# Altium footprint library buzzerGrande.PcbLib: 1 footprints
Each footprint in its own frame and in the unit in brackets; x right, y up, seen from the top. Pads: shape width x height; smd on the part's side, far side on the other; paste and mask are expansions set on the pad; w line width, h text height; cw(c..) or ccw(c..) is an arc to the next point about the centre after c.
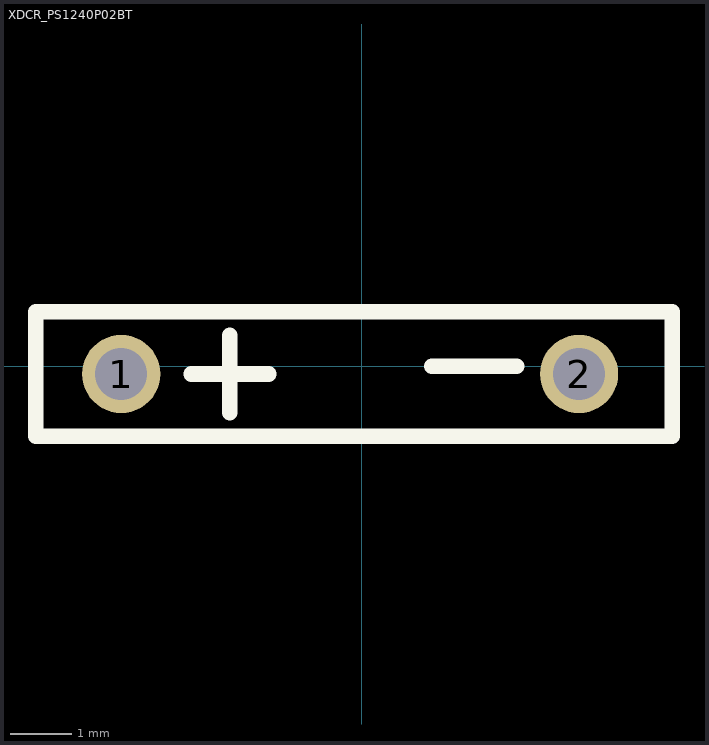
[diagram p0: the footprint, top view; thin cyan lines are the x and y axes]

## XDCR_PS1240P02BT [mm]
pads (2):
  round 1.28 hole 0.85: 1(-3.937,-0.127) 2(3.556,-0.127)
Top Overlay:
  lines w0.254: -2.794,-0.127 -1.524,-0.127 ; -2.159,-0.762 -2.159,0.508 ; 1.143,0 2.54,0 ; -5.334,-1.143 5.08,-1.143 5.08,0.889 -5.334,0.889 -5.334,-1.143
3D body "buzzer.stp": height -0.5, standoff -15.5, extent -6.127,-15.302 5.873,-3.302